# EAGLE library part LMV324 (library IC)
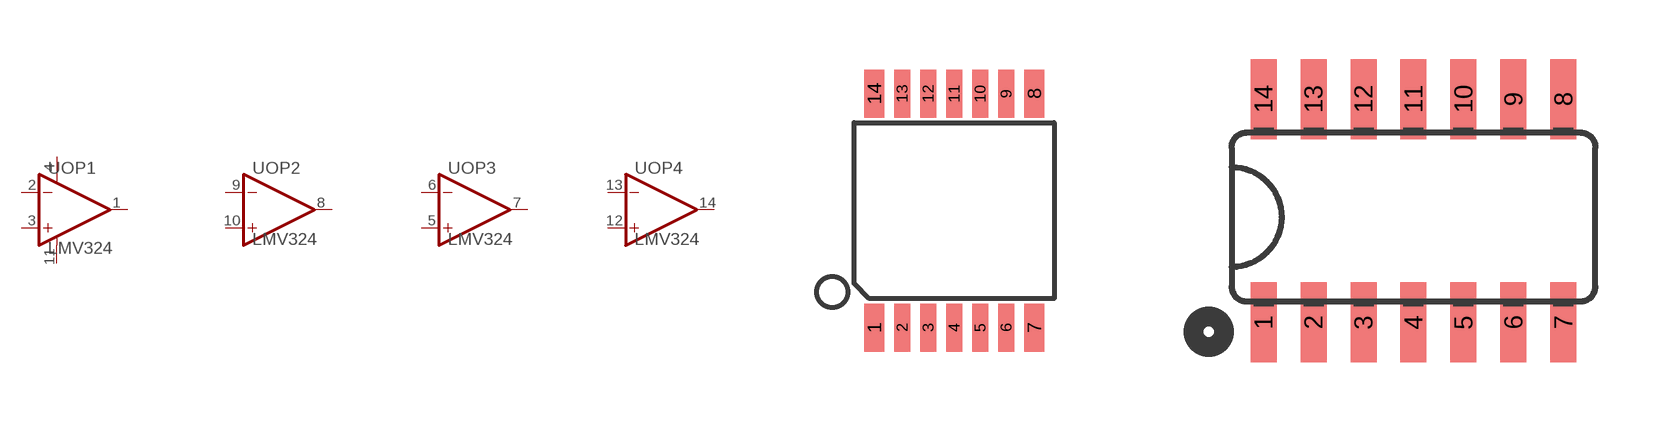
[diagram p165: symbol with the pads of TSSOP14; footprints TSSOP14, SO014]

Designator prefix U; gates OP1=OP-AMP+- OP2=OP-AMP OP3=OP-AMP OP4=OP-AMP

## LMV324IPWR  [TSSOP14]
1  OP1:OUT  out
2  OP1:IN-  in
3  OP1:IN+  in
4  OP1:V+  pwr
5  OP3:IN+  in
6  OP3:IN-  in
7  OP3:OUT  out
8  OP2:OUT  out
9  OP2:IN-  in
10  OP2:IN+  in
11  OP1:V-  pwr
12  OP4:IN+  in
13  OP4:IN-  in
14  OP4:OUT  out

## LMV324  [SO014]
Pads as for TSSOP14

## Footprint TSSOP14 (pad centres in mm)
smd 0.5 x 1.2: 1 -2,-2.925; 7 2,-2.925; 8 2,2.925; 14 -2,2.925
smd 0.4 x 1.2: 2 -1.3,-2.925; 3 -0.65,-2.925; 4 0,-2.925; 5 0.65,-2.925; 6 1.3,-2.925; 9 1.3,2.925; 10 0.65,2.925; 11 0,2.925; 12 -0.65,2.925; 13 -1.3,2.925

## Footprint SO014 (pad centres in mm)
smd 0.66 x 2.032: 1 -3.175,-2.68; 2 -1.905,-2.68; 3 -0.635,-2.68; 4 0.635,-2.68; 5 1.905,-2.68; 6 3.175,-2.68; 7 4.445,-2.68; 8 4.445,2.997; 9 3.175,2.997; 10 1.905,2.997; 11 0.635,2.997; 12 -0.635,2.997; 13 -1.905,2.997; 14 -3.175,2.997